# EAGLE library part 256KX1_DRAM (library Amiga)
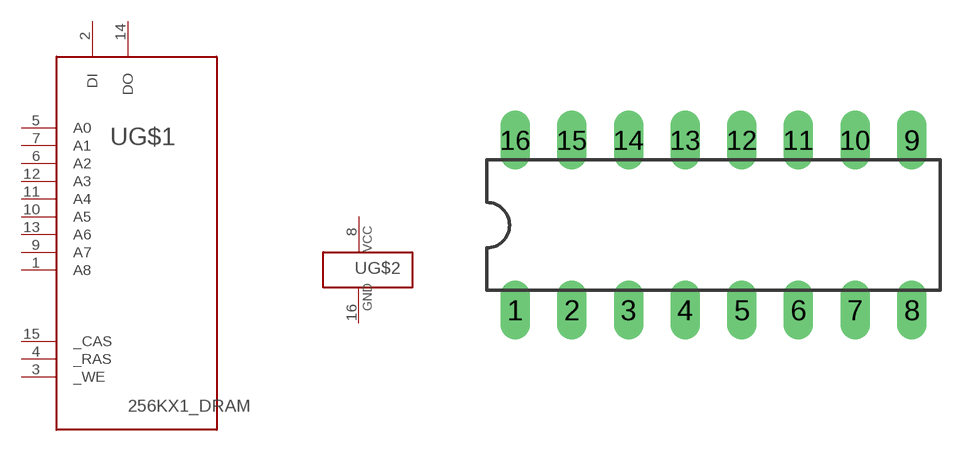
[diagram p50: symbol with the pads of DIL16; footprint DIL16]

Designator prefix -; gates G$1=256KX1_DRAM G$2=1VCC-1GND

## 256KX1_DRAMDIL  [DIL16]
1  G$1:A8  in
2  G$1:DI  in
3  G$1:_WE  in
4  G$1:_RAS  in
5  G$1:A0  in
6  G$1:A2  in
7  G$1:A1  in
8  G$2:VCC1  pwr
9  G$1:A7  in
10  G$1:A5  in
11  G$1:A4  in
12  G$1:A3  in
13  G$1:A6  in
14  G$1:DO  in
15  G$1:_CAS  in
16  G$2:GND1  pwr

## Footprint DIL16 (pad centres in mm)
Dual In Line Package
drill 0.813 long: 1 -8.89,-3.81; 2 -6.35,-3.81; 3 -3.81,-3.81; 4 -1.27,-3.81; 5 1.27,-3.81; 6 3.81,-3.81; 7 6.35,-3.81; 8 8.89,-3.81; 9 8.89,3.81; 10 6.35,3.81; 11 3.81,3.81; 12 1.27,3.81; 13 -1.27,3.81; 14 -3.81,3.81; 15 -6.35,3.81; 16 -8.89,3.81